# Altium schematic symbol library Misc.SchLib: 5 symbols
Pins are listed as number, name and electrical type; pins without a type are passive.

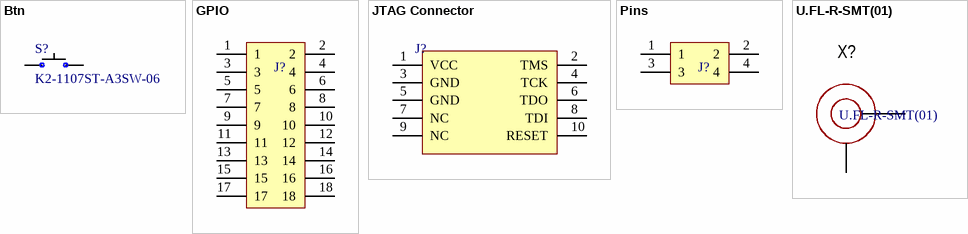
[diagram p0: symbols Btn to U.FL-R-SMT(01)]

## Btn
designator S?, comment K2-1107ST-A3SW-06
footprint Btn
pins: 1, 2

## GPIO
designator J?  (value not drawn)
footprint 1.27x18
pins: 1, 2, 3, 4, 5, 6, 7, 8, 9, 10, 11, 12, 13, 14, 15, 16, 17, 18

## JTAG Connector
designator J?
footprint 2x1.27x10
pins: 1 VCC, 2 TMS, 3 GND, 4 TCK, 5 GND, 6 TDO, 7 NC, 8 TDI, 9 NC, 10 RESET

## Pins
designator J?  (value not drawn)
footprint 1.27x4
pins: 1, 2, 3, 4

## U.FL-R-SMT(01)
designator X?
Manufacturer: Hirose Electric; ValueManufacturerPartNumber: Connector u.FL, 50 Ohm, 6GHz; TypeConnector: Connector u.FL; Frequency: 6GHz; Impedance: 50 Ohm; HelpURL: https://www.digikey.com/product-detail/en/hirose-electric-co-ltd/U.FL-R-SMT-01/H9161-ND/513010; PartNumber: U.FL-R-SMT(01)
footprint CON: u.Fl
pins: 1, 2